# Altium schematic symbol library SMAJ24CA.SchLib: 1 symbol
Pins are listed as number, name and electrical type; pins without a type are passive.

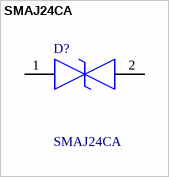
[diagram p0: symbol SMAJ24CA]

## SMAJ24CA
designator D?
ESD Suppressors / TVS Diodes 24volts 5uA 10.3 Amps Bi-Dir; Manufacturer_Name: Bourns; Geometry.Height: 2.29mm; Manufacturer_Part_Number: SMAJ24CA; Mouser Part Number: 652-SMAJ24CA; Mouser Price/Stock: https://www.mouser.co.uk/ProductDetail/Bourns/SMAJ24CA?qs=A3H9pljuJ8RsSQb8zLkILA%3D%3D; Arrow Part Number: SMAJ24CA; Arrow Price/Stock: https://www.arrow.com/en/products/smaj24ca/bourns?region=nac; Datasheet Link: https://www.bourns.com/docs/Product-Datasheets/SMAJ.pdf
footprint DIONM5127X229N
pins: 1, 2